# Altium schematic symbol library ARDUINO_NANO_A000005.SchLib: 1 symbol
Pins are listed as number, name and electrical type; pins without a type are passive.

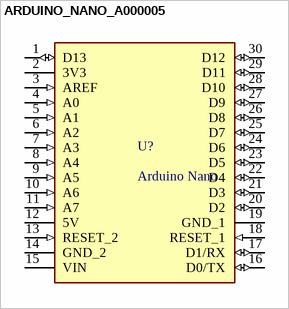
[diagram p0: symbol ARDUINO_NANO_A000005]

## ARDUINO_NANO_A000005
designator U?, comment Arduino Nano
ATSAMD21G18A Arduino Nano 33 IoT series ARMÂ® CortexÂ®-M0+ MCU 32-Bit Embedded Evaluation Board; MP: ARDUINO NANO A000005; SnapEDA_Link: https://www.snapeda.com/parts/ARDUINO%20NANO%20A000005/Arduino/view-part/?ref=snap; Package: Non-Standard Arduino; Value: *; MF: Arduino; Check_prices: https://www.snapeda.com/parts/ARDUINO%20NANO%20A000005/Arduino/view-part/?ref=eda
footprint MODULE_ARDUINO_NANO_A000005
pins: 1 D13 (io), 2 3V3 (power), 3 AREF (in), 4 A0 (in), 5 A1 (in), 6 A2 (in), 7 A3 (in), 8 A4 (in), 9 A5 (in), 10 A6 (in), 11 A7 (in), 12 5V (power), 13 RESET_2 (in), 14 GND_2 (power), 15 VIN (power), 16 D0/TX (io), 17 D1/RX (io), 18 RESET_1 (in), 19 GND_1 (power), 20 D2 (io), 21 D3 (io), 22 D4 (io), 23 D5 (io), 24 D6 (io), 25 D7 (io), 26 D8 (io), 27 D9 (io), 28 D10 (io), 29 D11 (io), 30 D12 (io)